# Altium integrated library MF-RESISTORS.IntLib: 98 symbols (part 2 of 2)
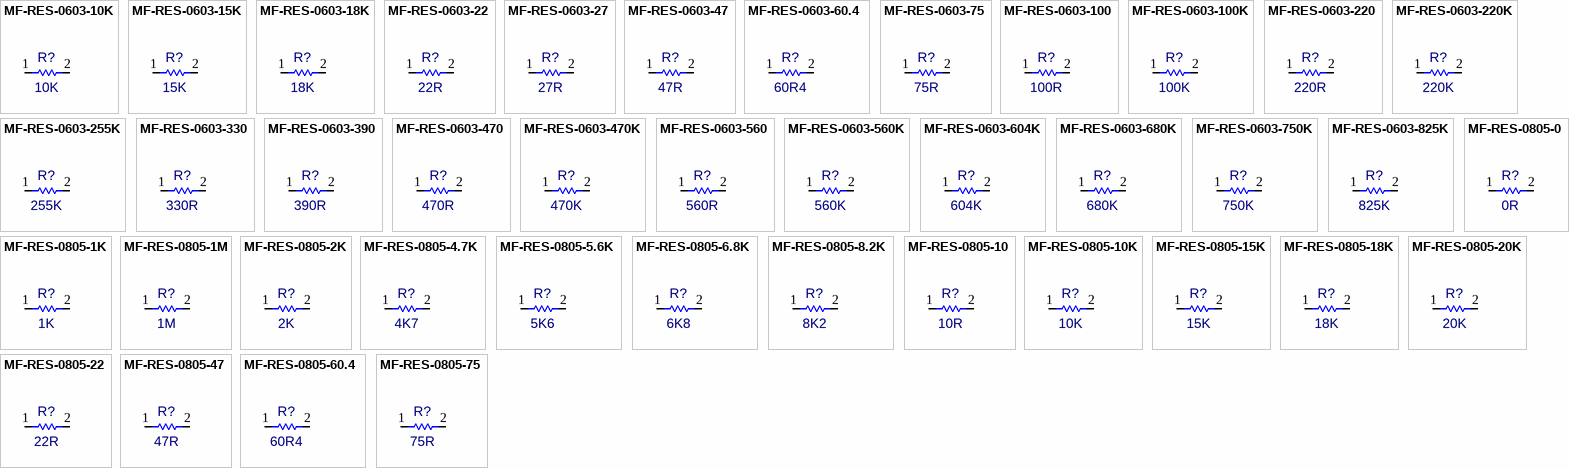
[diagram p3: symbols MF-RES-0603-10K to MF-RES-0805-75]

## MF-RES-0603-825K
designator R?  Resistance: 825K  (hidden comment: MF-RES-0603-825K)
Resistor Thick Film 0603 825K Ohm 1% 100mW 75V; Manufacturer 1: Panasonic; Value: 825000; Operating Temperature Range: - 55 C to + 155 C; RoHS: Compliant; Package: 0603; ComponentLink1Description: Datasheet; ComponentLink1URL: https://s3.amazonaws.com/devpublic1/datasheets/Panasonic_TF_Resistors.pdf; ComponentLink2Description: Supplier Link 1; ComponentLink2URL: https://factory.macrofab.com/part/MF-RES-0603-825K; Supplier 1: Macrofab; Supplier Part Number 1: MF-RES-0603-825K; Manufacturer Part Number 1: *; Voltage Rating: 75V; Power Rating: 100mW; Tolerance: 1%; Type: Thick Film Resistors General Purpose; Mount: SMD
footprint R0603 (Chip Resistor, 2-Leads, Body 1.60x0.85mm, IPC Medium Density)
pins: 1, 2

## MF-RES-0805-0
designator R?  Resistance: 0R  (hidden comment: MF-RES-0805-0)
Resistor Thick Film 0805 0 Ohm Jumper; Manufacturer 1: Panasonic; Value: 0; Tolerance: 5%; Operating Temperature Range: - 55 C to + 155 C; RoHS: Compliant; Package: 0805; ComponentLink1Description: Datasheet; ComponentLink1URL: https://s3.amazonaws.com/devpublic1/datasheets/Panasonic_TF_Resistors.pdf; ComponentLink2Description: Supplier Link 1; ComponentLink2URL: https://factory.macrofab.com/part/MF-RES-0805-0; Supplier 1: Macrofab; Supplier Part Number 1: MF-RES-0805-0; Manufacturer Part Number 1: *; Voltage Rating: N/A; Power Rating: N/A; Type: Thick Film Resistors General Purpose; Mount: SMD
footprint R0805 (Chip Resistor, 2-Leads, Body 2.00x1.25mm, IPC Medium Density)
pins: 1, 2

## MF-RES-0805-1K
designator R?  Resistance: 1K  (hidden comment: MF-RES-0805-1K)
Resistor Thick Film 0805 1K Ohm 5% 125mW 150V; Manufacturer 1: Panasonic; Value: 1000; Operating Temperature Range: - 55 C to + 155 C; RoHS: Compliant; Package: 0805; ComponentLink1Description: Datasheet; ComponentLink1URL: https://s3.amazonaws.com/devpublic1/datasheets/Panasonic_TF_Resistors.pdf; ComponentLink2Description: Supplier Link 1; ComponentLink2URL: https://factory.macrofab.com/part/MF-RES-0805-1K; Supplier 1: Macrofab; Supplier Part Number 1: MF-RES-0805-1K; Manufacturer Part Number 1: *; Voltage Rating: 150V; Power Rating: 125mW; Tolerance: 5%; Type: Thick Film Resistors General Purpose; Mount: SMD
footprint R0805 (Chip Resistor, 2-Leads, Body 2.00x1.25mm, IPC Medium Density)
pins: 1, 2

## MF-RES-0805-1M
designator R?  Resistance: 1M  (hidden comment: MF-RES-0805-1M)
Resistor Thick Film 0805 1M Ohm 5% 125mW 150V; Manufacturer 1: Panasonic; Value: 1000000; Operating Temperature Range: - 55 C to + 155 C; RoHS: Compliant; Package: 0805; ComponentLink1Description: Datasheet; ComponentLink1URL: https://s3.amazonaws.com/devpublic1/datasheets/Panasonic_TF_Resistors.pdf; ComponentLink2Description: Supplier Link 1; ComponentLink2URL: https://factory.macrofab.com/part/MF-RES-0805-1M; Supplier 1: Macrofab; Supplier Part Number 1: MF-RES-0805-1M; Manufacturer Part Number 1: *; Voltage Rating: 150V; Power Rating: 125mW; Tolerance: 5%; Type: Thick Film Resistors General Purpose; Mount: SMD
footprint R0805 (Chip Resistor, 2-Leads, Body 2.00x1.25mm, IPC Medium Density)
pins: 1, 2

## MF-RES-0805-2K
designator R?  Resistance: 2K  (hidden comment: MF-RES-0805-2K)
Resistor Thick Film 0805 2K Ohm5% 125W 150V; Manufacturer 1: Panasonic; Value: 2000; Power Rating: 125mW; Tolerance: 5%; Operating Temperature Range: - 55 C to + 155 C; RoHS: Compliant; Package: 0805; ComponentLink1Description: Datasheet; ComponentLink1URL: https://s3.amazonaws.com/devpublic1/datasheets/Panasonic_TF_Resistors.pdf; ComponentLink2Description: Supplier Link 1; ComponentLink2URL: https://factory.macrofab.com/part/MF-RES-0805-2K; Supplier 1: Macrofab; Supplier Part Number 1: MF-RES-0805-2K; Manufacturer Part Number 1: *; Voltage Rating: 150V; Type: Thick Film Resistors General Purpose; Mount: SMD
footprint R0805 (Chip Resistor, 2-Leads, Body 2.00x1.25mm, IPC Medium Density)
pins: 1, 2

## MF-RES-0805-4.7K
designator R?  Resistance: 4K7  (hidden comment: MF-RES-0805-4.7K)
Resistor Thick Film 0805 4.7K Ohm 5% 125mW 150V; Manufacturer 1: Panasonic; Value: 4700; Operating Temperature Range: - 55 C to + 155 C; RoHS: Compliant; Package: 0805; ComponentLink1Description: Datasheet; ComponentLink1URL: https://s3.amazonaws.com/devpublic1/datasheets/Panasonic_TF_Resistors.pdf; ComponentLink2Description: Supplier Link 1; ComponentLink2URL: https://factory.macrofab.com/part/MF-RES-0805-4.7K; Supplier 1: Macrofab; Supplier Part Number 1: MF-RES-0805-4.7K; Manufacturer Part Number 1: *; Voltage Rating: 150V; Power Rating: 125mW; Tolerance: 5%; Type: Thick Film Resistors General Purpose; Mount: SMD
footprint R0805 (Chip Resistor, 2-Leads, Body 2.00x1.25mm, IPC Medium Density)
pins: 1, 2

## MF-RES-0805-5.6K
designator R?  Resistance: 5K6  (hidden comment: MF-RES-0805-5.6K)
Resistor Thick Film 0805 5.6K Ohm 5% 125mW 150V; Manufacturer 1: Panasonic; Value: 5600; Operating Temperature Range: - 55 C to + 155 C; RoHS: Compliant; Package: 0805; ComponentLink1Description: Datasheet; ComponentLink1URL: https://s3.amazonaws.com/devpublic1/datasheets/Panasonic_TF_Resistors.pdf; ComponentLink2Description: Supplier Link 1; ComponentLink2URL: https://factory.macrofab.com/part/MF-RES-0805-5.6K; Supplier 1: Macrofab; Supplier Part Number 1: MF-RES-0805-5.6K; Manufacturer Part Number 1: *; Voltage Rating: 150V; Power Rating: 125mW; Tolerance: 5%; Type: Thick Film Resistors General Purpose; Mount: SMD
footprint R0805 (Chip Resistor, 2-Leads, Body 2.00x1.25mm, IPC Medium Density)
pins: 1, 2

## MF-RES-0805-6.8K
designator R?  Resistance: 6K8  (hidden comment: MF-RES-0805-6.8K)
Resistor Thick Film 0805 6.8K Ohm 5% 125mW 150V; Manufacturer 1: Panasonic; Value: 6800; Operating Temperature Range: - 55 C to + 155 C; RoHS: Compliant; Package: 0805; ComponentLink1Description: Datasheet; ComponentLink1URL: https://s3.amazonaws.com/devpublic1/datasheets/Panasonic_TF_Resistors.pdf; ComponentLink2Description: Supplier Link 1; ComponentLink2URL: https://factory.macrofab.com/part/MF-RES-0805-6.8K; Supplier 1: Macrofab; Supplier Part Number 1: MF-RES-0805-6.8K; Manufacturer Part Number 1: *; Voltage Rating: 150V; Power Rating: 125mW; Tolerance: 5%; Type: Thick Film Resistors General Purpose; Mount: SMD
footprint R0805 (Chip Resistor, 2-Leads, Body 2.00x1.25mm, IPC Medium Density)
pins: 1, 2

## MF-RES-0805-8.2K
designator R?  Resistance: 8K2  (hidden comment: MF-RES-0805-8.2K)
Resistor Thick Film 0805 8.2K Ohm 5% 125mW 150V; Manufacturer 1: Panasonic; Value: 8200; Operating Temperature Range: - 55 C to + 155 C; RoHS: Compliant; Package: 0805; ComponentLink1Description: Datasheet; ComponentLink1URL: https://s3.amazonaws.com/devpublic1/datasheets/Panasonic_TF_Resistors.pdf; ComponentLink2Description: Supplier Link 1; ComponentLink2URL: https://factory.macrofab.com/part/MF-RES-0805-8.2K; Supplier 1: Macrofab; Supplier Part Number 1: MF-RES-0805-8.2K; Manufacturer Part Number 1: *; Voltage Rating: 150V; Power Rating: 125mW; Tolerance: 5%; Type: Thick Film Resistors General Purpose; Mount: SMD
footprint R0805 (Chip Resistor, 2-Leads, Body 2.00x1.25mm, IPC Medium Density)
pins: 1, 2

## MF-RES-0805-10
designator R?  Resistance: 10R  (hidden comment: MF-RES-0805-10)
Resistor Thick Film 0805 10 Ohm 5% 125mW 150V; Manufacturer 1: Panasonic; Value: 10; Operating Temperature Range: - 55 C to + 155 C; RoHS: Compliant; Package: 0805; ComponentLink1Description: Datasheet; ComponentLink1URL: https://s3.amazonaws.com/devpublic1/datasheets/Panasonic_TF_Resistors.pdf; ComponentLink2Description: Supplier Link 1; ComponentLink2URL: https://factory.macrofab.com/part/MF-RES-0805-10; Supplier 1: Macrofab; Supplier Part Number 1: MF-RES-0805-10; Manufacturer Part Number 1: *; Voltage Rating: 150V; Power Rating: 125mW; Tolerance: 5%; Type: Thick Film Resistors General Purpose; Mount: SMD
footprint R0805 (Chip Resistor, 2-Leads, Body 2.00x1.25mm, IPC Medium Density)
pins: 1, 2

## MF-RES-0805-10K
designator R?  Resistance: 10K  (hidden comment: MF-RES-0805-10K)
Resistor Thick Film 0805 10K Ohm 5% 125mW 150V; Manufacturer 1: Panasonic; Value: 10000; Operating Temperature Range: - 55 C to + 155 C; RoHS: Compliant; Package: 0805; ComponentLink1Description: Datasheet; ComponentLink1URL: https://s3.amazonaws.com/devpublic1/datasheets/Panasonic_TF_Resistors.pdf; ComponentLink2Description: Supplier Link 1; ComponentLink2URL: https://factory.macrofab.com/part/MF-RES-0805-10K; Supplier 1: Macrofab; Supplier Part Number 1: MF-RES-0805-10K; Manufacturer Part Number 1: *; Voltage Rating: 150V; Power Rating: 125mW; Tolerance: 5%; Type: Thick Film Resistors General Purpose; Mount: SMD
footprint R0805 (Chip Resistor, 2-Leads, Body 2.00x1.25mm, IPC Medium Density)
pins: 1, 2

## MF-RES-0805-15K
designator R?  Resistance: 15K  (hidden comment: MF-RES-0805-15K)
Resistor Thick Film 0805 15K Ohm 5% 125mW 150V; Manufacturer 1: Panasonic; Value: 15000; Operating Temperature Range: - 55 C to + 155 C; RoHS: Compliant; Package: 0805; ComponentLink1Description: Datasheet; ComponentLink1URL: https://s3.amazonaws.com/devpublic1/datasheets/Panasonic_TF_Resistors.pdf; ComponentLink2Description: Supplier Link 1; ComponentLink2URL: https://factory.macrofab.com/part/MF-RES-0805-15K; Supplier 1: Macrofab; Supplier Part Number 1: MF-RES-0805-15K; Manufacturer Part Number 1: *; Voltage Rating: 150V; Power Rating: 125mW; Tolerance: 5%; Type: Thick Film Resistors General Purpose; Mount: SMD
footprint R0805 (Chip Resistor, 2-Leads, Body 2.00x1.25mm, IPC Medium Density)
pins: 1, 2

## MF-RES-0805-18K
designator R?  Resistance: 18K  (hidden comment: MF-RES-0805-18K)
Resistor Thick Film 0805 18K Ohm 5% 125mW 150V; Manufacturer 1: Panasonic; Value: 18000; Operating Temperature Range: - 55 C to + 155 C; RoHS: Compliant; Package: 0805; ComponentLink1Description: Datasheet; ComponentLink1URL: https://s3.amazonaws.com/devpublic1/datasheets/Panasonic_TF_Resistors.pdf; ComponentLink2Description: Supplier Link 1; ComponentLink2URL: https://factory.macrofab.com/part/MF-RES-0805-18K; Supplier 1: Macrofab; Supplier Part Number 1: MF-RES-0805-18K; Manufacturer Part Number 1: *; Voltage Rating: 150V; Power Rating: 125mW; Tolerance: 5%; Type: Thick Film Resistors General Purpose; Mount: SMD
footprint R0805 (Chip Resistor, 2-Leads, Body 2.00x1.25mm, IPC Medium Density)
pins: 1, 2

## MF-RES-0805-20K
designator R?  Resistance: 20K  (hidden comment: MF-RES-0805-20K)
Resistor Thick Film 0805 20K Ohm 1% 125mW 150V; Manufacturer 1: Panasonic; Value: 20000; Operating Temperature Range: - 55 C to + 155 C; RoHS: Compliant; Package: 0805; ComponentLink1Description: Datasheet; ComponentLink1URL: https://s3.amazonaws.com/devpublic1/datasheets/Panasonic_TF_Resistors.pdf; ComponentLink2Description: Supplier Link 1; ComponentLink2URL: https://factory.macrofab.com/part/MF-RES-0805-20K; Supplier 1: Macrofab; Supplier Part Number 1: MF-RES-0805-20K; Manufacturer Part Number 1: *; Voltage Rating: 150V; Power Rating: 125mW; Tolerance: 1%; Type: Thick Film Resistors General Purpose; Mount: SMD
footprint R0805 (Chip Resistor, 2-Leads, Body 2.00x1.25mm, IPC Medium Density)
pins: 1, 2

## MF-RES-0805-22
designator R?  Resistance: 22R  (hidden comment: MF-RES-0805-22)
Resistor Thick Film 0805 22 Ohm 5% 125mW 150V; Manufacturer 1: Panasonic; Value: 22; Operating Temperature Range: - 55 C to + 155 C; RoHS: Compliant; Package: 0805; ComponentLink1Description: Datasheet; ComponentLink1URL: https://s3.amazonaws.com/devpublic1/datasheets/Panasonic_TF_Resistors.pdf; ComponentLink2Description: Supplier Link 1; ComponentLink2URL: https://factory.macrofab.com/part/MF-RES-0805-22; Supplier 1: Macrofab; Supplier Part Number 1: MF-RES-0805-22; Manufacturer Part Number 1: *; Voltage Rating: 150V; Power Rating: 125mW; Tolerance: 5%; Type: Thick Film Resistors General Purpose; Mount: SMD
footprint R0805 (Chip Resistor, 2-Leads, Body 2.00x1.25mm, IPC Medium Density)
pins: 1, 2

## MF-RES-0805-47
designator R?  Resistance: 47R  (hidden comment: MF-RES-0805-47)
Resistor Thick Film 0805 47 Ohm 5% 125mW 150V; Manufacturer 1: Panasonic; Value: 47; Operating Temperature Range: - 55 C to + 155 C; RoHS: Compliant; Package: 0805; ComponentLink1Description: Datasheet; ComponentLink1URL: https://s3.amazonaws.com/devpublic1/datasheets/Panasonic_TF_Resistors.pdf; ComponentLink2Description: Supplier Link 1; ComponentLink2URL: https://factory.macrofab.com/part/MF-RES-0805-47; Supplier 1: Macrofab; Supplier Part Number 1: MF-RES-0805-47; Manufacturer Part Number 1: *; Voltage Rating: 150V; Power Rating: 125mW; Tolerance: 5%; Type: Thick Film Resistors General Purpose; Mount: SMD
footprint R0805 (Chip Resistor, 2-Leads, Body 2.00x1.25mm, IPC Medium Density)
pins: 1, 2

## MF-RES-0805-60.4
designator R?  Resistance: 60R4  (hidden comment: MF-RES-0805-60.4)
Resistor Thick Film 0805 60.4 Ohm 1% 125mW 150V; Manufacturer 1: Panasonic; Value: 60.4; Operating Temperature Range: - 55 C to + 155 C; RoHS: Compliant; Package: 0805; ComponentLink1Description: Datasheet; ComponentLink1URL: https://s3.amazonaws.com/devpublic1/datasheets/Panasonic_TF_Resistors.pdf; ComponentLink2Description: Supplier Link 1; ComponentLink2URL: https://factory.macrofab.com/part/MF-RES-0805-60.4; Supplier 1: Macrofab; Supplier Part Number 1: MF-RES-0805-60.4; Manufacturer Part Number 1: *; Voltage Rating: 150V; Power Rating: 125mW; Tolerance: 1%; Type: Thick Film Resistors General Purpose; Mount: SMD
footprint R0805 (Chip Resistor, 2-Leads, Body 2.00x1.25mm, IPC Medium Density)
pins: 1, 2

## MF-RES-0805-75
designator R?  Resistance: 75R  (hidden comment: MF-RES-0805-75)
Resistor Thick Film 0805 75 Ohm 5% 125mW 150V; Manufacturer 1: Panasonic; Value: 75; Operating Temperature Range: - 55 C to + 155 C; RoHS: Compliant; Package: 0805; ComponentLink1Description: Datasheet; ComponentLink1URL: https://s3.amazonaws.com/devpublic1/datasheets/Panasonic_TF_Resistors.pdf; ComponentLink2Description: Supplier Link 1; ComponentLink2URL: https://factory.macrofab.com/part/MF-RES-0805-75; Supplier 1: Macrofab; Supplier Part Number 1: MF-RES-0805-75; Manufacturer Part Number 1: *; Voltage Rating: 150V; Power Rating: 125mW; Tolerance: 5%; Type: Thick Film Resistors General Purpose; Mount: SMD
footprint R0805 (Chip Resistor, 2-Leads, Body 2.00x1.25mm, IPC Medium Density)
pins: 1, 2

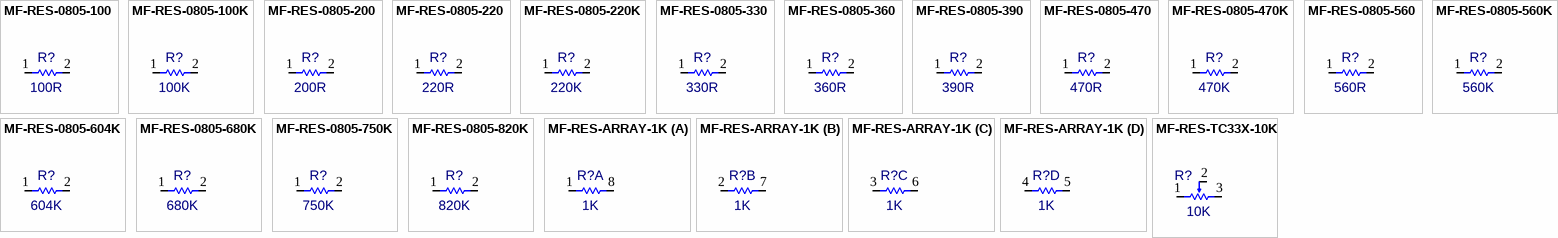
[diagram p2: symbols MF-RES-0805-100 to MF-RES-TC33X-10K]

## MF-RES-0805-100
designator R?  Resistance: 100R  (hidden comment: MF-RES-0805-100)
Resistor Thick Film 0805 100 Ohm 5% 125mW 150V; Manufacturer 1: Panasonic; Value: 100; Operating Temperature Range: - 55 C to + 155 C; RoHS: Compliant; Package: 0805; ComponentLink1Description: Datasheet; ComponentLink1URL: https://s3.amazonaws.com/devpublic1/datasheets/Panasonic_TF_Resistors.pdf; ComponentLink2Description: Supplier Link 1; ComponentLink2URL: https://factory.macrofab.com/part/MF-RES-0805-100; Supplier 1: Macrofab; Supplier Part Number 1: MF-RES-0805-100; Manufacturer Part Number 1: *; Voltage Rating: 150V; Power Rating: 125mW; Tolerance: 5%; Type: Thick Film Resistors General Purpose; Mount: SMD
footprint R0805 (Chip Resistor, 2-Leads, Body 2.00x1.25mm, IPC Medium Density)
pins: 1, 2

## MF-RES-0805-100K
designator R?  Resistance: 100K  (hidden comment: MF-RES-0805-100K)
Resistor Thick Film 0805 100K Ohm 5% 125mW 150V; Manufacturer 1: Panasonic; Value: 100000; Operating Temperature Range: - 55 C to + 155 C; RoHS: Compliant; Package: 0805; ComponentLink1Description: Datasheet; ComponentLink1URL: https://s3.amazonaws.com/devpublic1/datasheets/Panasonic_TF_Resistors.pdf; ComponentLink2Description: Supplier Link 1; ComponentLink2URL: https://factory.macrofab.com/part/MF-RES-0805-100K; Supplier 1: Macrofab; Supplier Part Number 1: MF-RES-0805-100K; Manufacturer Part Number 1: *; Voltage Rating: 150V; Power Rating: 125mW; Tolerance: 5%; Type: Thick Film Resistors General Purpose; Mount: SMD
footprint R0805 (Chip Resistor, 2-Leads, Body 2.00x1.25mm, IPC Medium Density)
pins: 1, 2

## MF-RES-0805-200
designator R?  Resistance: 200R  (hidden comment: MF-RES-0805-200)
Resistor Thick Film 0805 200 Ohm 1% 125mW 150V; Manufacturer 1: Panasonic; Value: 200; Tolerance: 5%; Operating Temperature Range: - 55 C to + 155 C; RoHS: Compliant; Package: 0805; ComponentLink1Description: Datasheet; ComponentLink1URL: https://s3.amazonaws.com/devpublic1/datasheets/Panasonic_TF_Resistors.pdf; ComponentLink2Description: Supplier Link 1; ComponentLink2URL: https://factory.macrofab.com/part/MF-RES-0805-200; Supplier 1: Macrofab; Supplier Part Number 1: MF-RES-0805-200; Manufacturer Part Number 1: *; Voltage Rating: 150V; Power Rating: 125mW; Type: Thick Film Resistors General Purpose; Mount: SMD
footprint R0805 (Chip Resistor, 2-Leads, Body 2.00x1.25mm, IPC Medium Density)
pins: 1, 2

## MF-RES-0805-220
designator R?  Resistance: 220R  (hidden comment: MF-RES-0805-220)
Resistor Thick Film 0805 220 Ohm 5% 125mW 150V; Manufacturer 1: Panasonic; Value: 220; Operating Temperature Range: - 55 C to + 155 C; RoHS: Compliant; Package: 0805; ComponentLink1Description: Datasheet; ComponentLink1URL: https://s3.amazonaws.com/devpublic1/datasheets/Panasonic_TF_Resistors.pdf; ComponentLink2Description: Supplier Link 1; ComponentLink2URL: https://factory.macrofab.com/part/MF-RES-0805-220; Supplier 1: Macrofab; Supplier Part Number 1: MF-RES-0805-220; Manufacturer Part Number 1: *; Voltage Rating: 150V; Power Rating: 125mW; Tolerance: 5%; Type: Thick Film Resistors General Purpose; Mount: SMD
footprint R0805 (Chip Resistor, 2-Leads, Body 2.00x1.25mm, IPC Medium Density)
pins: 1, 2

## MF-RES-0805-220K
designator R?  Resistance: 220K  (hidden comment: MF-RES-0805-220K)
Resistor Thick Film 0805 220K Ohm 5% 125mW 150V; Manufacturer 1: Panasonic; Value: 220000; Operating Temperature Range: - 55 C to + 155 C; RoHS: Compliant; Package: 0805; ComponentLink1Description: Datasheet; ComponentLink1URL: https://s3.amazonaws.com/devpublic1/datasheets/Panasonic_TF_Resistors.pdf; ComponentLink2Description: Supplier Link 1; ComponentLink2URL: https://factory.macrofab.com/part/MF-RES-0805-220K; Supplier 1: Macrofab; Supplier Part Number 1: MF-RES-0805-220K; Manufacturer Part Number 1: *; Voltage Rating: 150V; Power Rating: 125mW; Tolerance: 5%; Type: Thick Film Resistors General Purpose; Mount: SMD
footprint R0805 (Chip Resistor, 2-Leads, Body 2.00x1.25mm, IPC Medium Density)
pins: 1, 2

## MF-RES-0805-330
designator R?  Resistance: 330R  (hidden comment: MF-RES-0805-330)
Resistor Thick Film 0805 330 Ohm 5% 125mW 150V; Manufacturer 1: Panasonic; Value: 330; Operating Temperature Range: - 55 C to + 155 C; RoHS: Compliant; Package: 0805; ComponentLink1Description: Datasheet; ComponentLink1URL: https://s3.amazonaws.com/devpublic1/datasheets/Panasonic_TF_Resistors.pdf; ComponentLink2Description: Supplier Link 1; ComponentLink2URL: https://factory.macrofab.com/part/MF-RES-0805-330; Supplier 1: Macrofab; Supplier Part Number 1: MF-RES-0805-330; Manufacturer Part Number 1: *; Voltage Rating: 150V; Power Rating: 125mW; Tolerance: 5%; Type: Thick Film Resistors General Purpose; Mount: SMD
footprint R0805 (Chip Resistor, 2-Leads, Body 2.00x1.25mm, IPC Medium Density)
pins: 1, 2

## MF-RES-0805-360
designator R?  Resistance: 360R  (hidden comment: MF-RES-0805-360)
Resistor Thick Film 0805 360 Ohm 5% 125mW 150V; Manufacturer 1: Panasonic; Value: 360; Operating Temperature Range: - 55 C to + 155 C; RoHS: Compliant; Package: 0805; ComponentLink1Description: Datasheet; ComponentLink1URL: https://s3.amazonaws.com/devpublic1/datasheets/Panasonic_TF_Resistors.pdf; ComponentLink2Description: Supplier Link 1; ComponentLink2URL: https://factory.macrofab.com/part/MF-RES-0805-360; Supplier 1: Macrofab; Supplier Part Number 1: MF-RES-0805-360; Manufacturer Part Number 1: *; Voltage Rating: 150V; Power Rating: 125mW; Tolerance: 5%; Type: Thick Film Resistors General Purpose; Mount: SMD
footprint R0805 (Chip Resistor, 2-Leads, Body 2.00x1.25mm, IPC Medium Density)
pins: 1, 2

## MF-RES-0805-390
designator R?  Resistance: 390R  (hidden comment: MF-RES-0805-390)
Resistor Thick Film 0805 390 Ohm 5% 125mW 150V; Manufacturer 1: Panasonic; Value: 390; Operating Temperature Range: - 55 C to + 155 C; RoHS: Compliant; Package: 0805; ComponentLink1Description: Datasheet; ComponentLink1URL: https://s3.amazonaws.com/devpublic1/datasheets/Panasonic_TF_Resistors.pdf; ComponentLink2Description: Supplier Link 1; ComponentLink2URL: https://factory.macrofab.com/part/MF-RES-0805-390; Supplier 1: Macrofab; Supplier Part Number 1: MF-RES-0805-390; Manufacturer Part Number 1: *; Voltage Rating: 150V; Power Rating: 125mW; Tolerance: 5%; Type: Thick Film Resistors General Purpose; Mount: SMD
footprint R0805 (Chip Resistor, 2-Leads, Body 2.00x1.25mm, IPC Medium Density)
pins: 1, 2

## MF-RES-0805-470
designator R?  Resistance: 470R  (hidden comment: MF-RES-0805-470)
Resistor Thick Film 0805 470 Ohm 5% 125mW 150V; Manufacturer 1: Panasonic; Value: 470; Operating Temperature Range: - 55 C to + 155 C; RoHS: Compliant; Package: 0805; ComponentLink1Description: Datasheet; ComponentLink1URL: https://s3.amazonaws.com/devpublic1/datasheets/Panasonic_TF_Resistors.pdf; ComponentLink2Description: Supplier Link 1; ComponentLink2URL: https://factory.macrofab.com/part/MF-RES-0805-470; Supplier 1: Macrofab; Supplier Part Number 1: MF-RES-0805-470; Manufacturer Part Number 1: *; Voltage Rating: 150V; Power Rating: 125mW; Tolerance: 5%; Type: Thick Film Resistors General Purpose; Mount: SMD
footprint R0805 (Chip Resistor, 2-Leads, Body 2.00x1.25mm, IPC Medium Density)
pins: 1, 2

## MF-RES-0805-470K
designator R?  Resistance: 470K  (hidden comment: MF-RES-0805-470K)
Resistor Thick Film 0805 470K Ohm 5% 125mW 150V; Manufacturer 1: Panasonic; Value: 470000; Operating Temperature Range: - 55 C to + 155 C; RoHS: Compliant; Package: 0805; ComponentLink1Description: Datasheet; ComponentLink1URL: https://s3.amazonaws.com/devpublic1/datasheets/Panasonic_TF_Resistors.pdf; ComponentLink2Description: Supplier Link 1; ComponentLink2URL: https://factory.macrofab.com/part/MF-RES-0805-470K; Supplier 1: Macrofab; Supplier Part Number 1: MF-RES-0805-470K; Manufacturer Part Number 1: *; Voltage Rating: 150V; Power Rating: 125mW; Tolerance: 5%; Type: Thick Film Resistors General Purpose; Mount: SMD
footprint R0805 (Chip Resistor, 2-Leads, Body 2.00x1.25mm, IPC Medium Density)
pins: 1, 2

## MF-RES-0805-560
designator R?  Resistance: 560R  (hidden comment: MF-RES-0805-560)
Resistor Thick Film 0805 560 Ohm 5% 125mW 150V; Manufacturer 1: Panasonic; Value: 560; Operating Temperature Range: - 55 C to + 155 C; RoHS: Compliant; Package: 0805; ComponentLink1Description: Datasheet; ComponentLink1URL: https://s3.amazonaws.com/devpublic1/datasheets/Panasonic_TF_Resistors.pdf; ComponentLink2Description: Supplier Link 1; ComponentLink2URL: https://factory.macrofab.com/part/MF-RES-0805-560; Supplier 1: Macrofab; Supplier Part Number 1: MF-RES-0805-560; Manufacturer Part Number 1: *; Voltage Rating: 150V; Power Rating: 125mW; Tolerance: 5%; Type: Thick Film Resistors General Purpose; Mount: SMD
footprint R0805 (Chip Resistor, 2-Leads, Body 2.00x1.25mm, IPC Medium Density)
pins: 1, 2

## MF-RES-0805-560K
designator R?  Resistance: 560K  (hidden comment: MF-RES-0805-560K)
Resistor Thick Film 0805 560K Ohm 5% 125mW 150V; Manufacturer 1: Panasonic; Value: 560000; Operating Temperature Range: - 55 C to + 155 C; RoHS: Compliant; Package: 0805; ComponentLink1Description: Datasheet; ComponentLink1URL: https://s3.amazonaws.com/devpublic1/datasheets/Panasonic_TF_Resistors.pdf; ComponentLink2Description: Supplier Link 1; ComponentLink2URL: https://factory.macrofab.com/part/MF-RES-0805-560K; Supplier 1: Macrofab; Supplier Part Number 1: MF-RES-0805-560K; Manufacturer Part Number 1: *; Voltage Rating: 150V; Power Rating: 125mW; Tolerance: 5%; Type: Thick Film Resistors General Purpose; Mount: SMD
footprint R0805 (Chip Resistor, 2-Leads, Body 2.00x1.25mm, IPC Medium Density)
pins: 1, 2

## MF-RES-0805-604K
designator R?  Resistance: 604K  (hidden comment: MF-RES-0805-604K)
Resistor Thick Film 0805 604K Ohm 1% 100mW 75V; Manufacturer 1: Panasonic; Value: 604000; Voltage Rating: 150V; Power Rating: 125mW; Operating Temperature Range: - 55 C to + 155 C; RoHS: Compliant; Package: 0805; ComponentLink1Description: Datasheet; ComponentLink1URL: https://s3.amazonaws.com/devpublic1/datasheets/Panasonic_TF_Resistors.pdf; ComponentLink2Description: Supplier Link 1; ComponentLink2URL: https://factory.macrofab.com/part/MF-RES-0805-604K; Supplier 1: Macrofab; Supplier Part Number 1: MF-RES-0805-604K; Manufacturer Part Number 1: *; Tolerance: 1%; Type: Thick Film Resistors General Purpose; Mount: SMD
footprint R0805 (Chip Resistor, 2-Leads, Body 2.00x1.25mm, IPC Medium Density)
pins: 1, 2

## MF-RES-0805-680K
designator R?  Resistance: 680K  (hidden comment: MF-RES-0805-680K)
Resistor Thick Film 0805 680K Ohm 5% 125mW 150V; Manufacturer 1: Panasonic; Value: 680000; Operating Temperature Range: - 55 C to + 155 C; RoHS: Compliant; Package: 0805; ComponentLink1Description: Datasheet; ComponentLink1URL: https://s3.amazonaws.com/devpublic1/datasheets/Panasonic_TF_Resistors.pdf; ComponentLink2Description: Supplier Link 1; ComponentLink2URL: https://factory.macrofab.com/part/MF-RES-0805-680K; Supplier 1: Macrofab; Supplier Part Number 1: MF-RES-0805-680K; Manufacturer Part Number 1: *; Voltage Rating: 150V; Power Rating: 125mW; Tolerance: 5%; Type: Thick Film Resistors General Purpose; Mount: SMD
footprint R0805 (Chip Resistor, 2-Leads, Body 2.00x1.25mm, IPC Medium Density)
pins: 1, 2

## MF-RES-0805-750K
designator R?  Resistance: 750K  (hidden comment: MF-RES-0805-750K)
Resistor Thick Film 0805 750K Ohm 5% 125W 150V; Manufacturer 1: Panasonic; Value: 750000; Power Rating: 125mW; Operating Temperature Range: - 55 C to + 155 C; RoHS: Compliant; Package: 0805; ComponentLink1Description: Datasheet; ComponentLink1URL: https://s3.amazonaws.com/devpublic1/datasheets/Panasonic_TF_Resistors.pdf; ComponentLink2Description: Supplier Link 1; ComponentLink2URL: https://factory.macrofab.com/part/MF-RES-0805-750K; Supplier 1: Macrofab; Supplier Part Number 1: MF-RES-0805-750K; Manufacturer Part Number 1: *; Voltage Rating: 150V; Tolerance: 5%; Type: Thick Film Resistors General Purpose; Mount: SMD
footprint R0805 (Chip Resistor, 2-Leads, Body 2.00x1.25mm, IPC Medium Density)
pins: 1, 2

## MF-RES-0805-820K
designator R?  Resistance: 820K  (hidden comment: MF-RES-0805-820K)
Resistor Thick Film 0805 820K Ohm 1% 125mW 150V; Manufacturer 1: Panasonic; Value: 820000; Tolerance: 5%; Operating Temperature Range: - 55 C to + 155 C; RoHS: Compliant; Package: 0805; ComponentLink1Description: Datasheet; ComponentLink1URL: https://s3.amazonaws.com/devpublic1/datasheets/Panasonic_TF_Resistors.pdf; ComponentLink2Description: Supplier Link 1; ComponentLink2URL: https://factory.macrofab.com/part/MF-RES-0805-820K; Supplier 1: Macrofab; Supplier Part Number 1: MF-RES-0805-820K; Manufacturer Part Number 1: *; Voltage Rating: 150V; Power Rating: 125mW; Type: Thick Film Resistors General Purpose; Mount: SMD
footprint R0805 (Chip Resistor, 2-Leads, Body 2.00x1.25mm, IPC Medium Density)
pins: 1, 2

## MF-RES-ARRAY-1K
designator R?  Resistance: 1K  (hidden comment: MF-RES-ARRAY-1K)
Resistor Array 1K Ohm 62mW 50V 5%; Manufacturer 1: Bourns; Manufacturer Part Number 1: CAY16-102J4LF; Value: 1000; Operating Temperature Range: - 55 C to + 125 C; RoHS: Compliant; Package: 1206; ComponentLink1Description: Datasheet; ComponentLink1URL: https://s3.amazonaws.com/devpublic1/datasheets/CATCAY-5693.pdf; ComponentLink2Description: Supplier Link 1; ComponentLink2URL: https://factory.macrofab.com/part/MF-RES-ARRAY-1K; Supplier 1: Macrofab; Supplier Part Number 1: MF-RES-ARRAY-1K; Voltage Rating: 50V; Power Rating: 62mW; Tolerance: 5%; Type: Resistor Array; Mount: SMD
footprint RA1206 (Chip Array, Concave, 8-Leads, Pitch 0.80mm,  Body 3.20x1.60mm,  IPC Medium Density)
part A pins: 1, 8
part B pins: 2, 7
part C pins: 3, 6
part D pins: 4, 5

## MF-RES-TC33X-10K
designator R?  Resistance: 10K  (hidden comment: MF-RES-TC33X-10K)
Trim Potentiometer 3MM 10K Ohm 25% 100mW; Manufacturer 1: Bourns; Manufacturer Part Number 1: TC33X-1-103E; Value: 10000; Aqueous Cleaning: No; Operating Temperature Range: - 44 C to + 120 C; RoHS: Compliant; Package: TC33X; ComponentLink1Description: Datasheet; ComponentLink1URL: https://factory.macrofab.com/part/MF-RES-TC33X-10K; ComponentLink2Description: Supplier Link 1; ComponentLink2URL: https://factory.macrofab.com/part/MF-RES-TC33X-10K; Supplier 1: Macrofab; Supplier Part Number 1: MF-RES-TC33X-10K; Power Rating: 100mW; Tolerance: 25%; Type: Trimmer Resistors - SMD; Mount: SMD
footprint TC33X (3 mm SMD Trimpot®)
pins: 1, 2, 3